# Altium footprint library AD5162BRMZ100.PcbLib: 3 footprints
Each footprint in its own frame and in the unit in brackets; x right, y up, seen from the top. Pads: shape width x height; smd on the part's side, far side on the other; paste and mask are expansions set on the pad; w line width, h text height; cw(c..) or ccw(c..) is an arc to the next point about the centre after c.
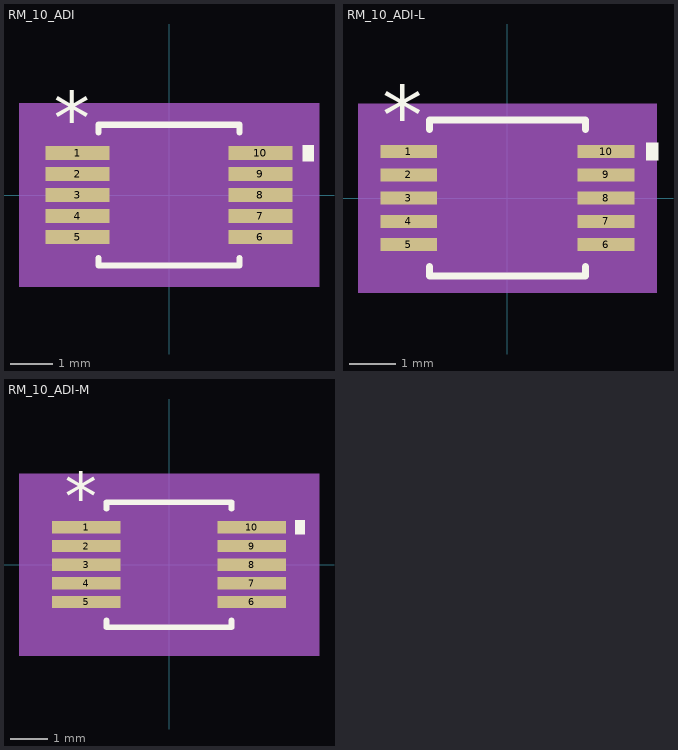
[diagram p0: the footprints below, top view; thin cyan lines are the x and y axes]

## RM_10_ADI [mil]
pads (10):
  rect 60x13 smd paste+0 mask+0: 1(-85.5,39.37) 2(-85.5,19.68) 3(-85.5,0) 4(-85.5,-19.68) 5(-85.5,-39.37) 6(85.5,-39.37) 7(85.5,-19.68) 8(85.5,0) 9(85.5,19.68) 10(85.5,39.37)
Top Overlay:
  region: 125.5,46.87 135.5,46.87 135.5,31.87 125.5,31.87
  lines w6: -66,-58.97 -66,-66 66,-66 66,-58.97 ; -66,58.97 -66,66 66,66 66,58.97
  text "*" at -108,47.37 h50
Mechanical 5:
  region: 140.5,-86 -140.5,-86 -140.5,86 140.5,86
Mechanical 13:
  lines w0: -12,61 ccw(c0,61) 12,61
  lines w1: -101.5,-45.87 -101.5,-32.87 -61,-32.87 -61,-45.87 -101.5,-45.87 ; -101.5,-26.18 -101.5,-13.19 -61,-13.19 -61,-26.18 -101.5,-26.18 ; -101.5,-6.5 -101.5,6.5 -61,6.5 -61,-6.5 -101.5,-6.5 ; -101.5,13.19 -101.5,26.18 -61,26.18 -61,13.19 -101.5,13.19 ; -101.5,32.87 -101.5,45.87 -61,45.87 -61,32.87 -101.5,32.87 ; -61,-61 61,-61 61,61 -61,61 -61,-61 ; 61,-45.87 61,-32.87 101.5,-32.87 101.5,-45.87 61,-45.87 ; 61,-26.18 61,-13.19 101.5,-13.19 101.5,-26.18 61,-26.18 ; 61,-6.5 61,6.5 101.5,6.5 101.5,-6.5 61,-6.5 ; 61,13.19 61,26.18 101.5,26.18 101.5,13.19 61,13.19 ; 61,32.87 61,45.87 101.5,45.87 101.5,32.87 61,32.87
  text "*" at -58.5,8 h50
Mechanical 15:
  region: -71,-55.87 -125.5,-55.87 -125.5,55.87 -71,55.87 -71,71 71,71 71,55.87 125.5,55.87 125.5,-55.87 71,-55.87 71,-71 -71,-71
  lines w6: -125.5,-55.87 -125.5,55.87 -71,55.87 -71,71 71,71 71,55.87 125.5,55.87 125.5,-55.87 71,-55.87 71,-71 -71,-71 -71,-55.87 -125.5,-55.87
3D body "RM_10_ADI.step": height 43.11, standoff 0, extent -101.5,-60.98 101.5,60.98

## RM_10_ADI-L [mil]
pads (10):
  rect 48x11 smd paste+0 mask+0: 1(-83.5,39.37) 2(-83.5,19.68) 3(-83.5,0) 4(-83.5,-19.68) 5(-83.5,-39.37) 6(83.5,-39.37) 7(83.5,-19.68) 8(83.5,0) 9(83.5,19.68) 10(83.5,39.37)
Top Overlay:
  region: 117.5,46.87 127.5,46.87 127.5,31.87 117.5,31.87
  lines w6: -66,-57.97 -66,-66 66,-66 66,-57.97 ; -66,57.97 -66,66 66,66 66,57.97
  text "*" at -106,45.37 h50
Mechanical 5:
  region: 126.5,-80 -126.5,-80 -126.5,80 126.5,80
Mechanical 13:
  lines w0: -12,61 ccw(c0,61) 12,61
  lines w1: -101.5,-45.87 -101.5,-32.87 -61,-32.87 -61,-45.87 -101.5,-45.87 ; -101.5,-26.18 -101.5,-13.19 -61,-13.19 -61,-26.18 -101.5,-26.18 ; -101.5,-6.5 -101.5,6.5 -61,6.5 -61,-6.5 -101.5,-6.5 ; -101.5,13.19 -101.5,26.18 -61,26.18 -61,13.19 -101.5,13.19 ; -101.5,32.87 -101.5,45.87 -61,45.87 -61,32.87 -101.5,32.87 ; -61,-61 61,-61 61,61 -61,61 -61,-61 ; 61,-45.87 61,-32.87 101.5,-32.87 101.5,-45.87 61,-45.87 ; 61,-26.18 61,-13.19 101.5,-13.19 101.5,-26.18 61,-26.18 ; 61,-6.5 61,6.5 101.5,6.5 101.5,-6.5 61,-6.5 ; 61,13.19 61,26.18 101.5,26.18 101.5,13.19 61,13.19 ; 61,32.87 61,45.87 101.5,45.87 101.5,32.87 61,32.87
  text "*" at -58.5,8 h50
Mechanical 15:
  region: -65,-48.87 -111.5,-48.87 -111.5,48.87 -65,48.87 -65,65 65,65 65,48.87 111.5,48.87 111.5,-48.87 65,-48.87 65,-65 -65,-65
  lines w6: -111.5,-48.87 -111.5,48.87 -65,48.87 -65,65 65,65 65,48.87 111.5,48.87 111.5,-48.87 65,-48.87 65,-65 -65,-65 -65,-48.87 -111.5,-48.87
3D body "RM_10_ADI.step": height 43.11, standoff 0, extent -101.5,-60.98 101.5,60.98

## RM_10_ADI-M [mil]
pads (10):
  rect 72x13 smd paste+0 mask+0: 1(-87.5,39.37) 2(-87.5,19.68) 3(-87.5,0) 4(-87.5,-19.68) 5(-87.5,-39.37) 6(87.5,-39.37) 7(87.5,-19.68) 8(87.5,0) 9(87.5,19.68) 10(87.5,39.37)
Top Overlay:
  region: 133.5,46.87 143.5,46.87 143.5,31.87 133.5,31.87
  lines w6: -66,-58.97 -66,-66 66,-66 66,-58.97 ; -66,58.97 -66,66 66,66 66,58.97
  text "*" at -110,47.37 h50
Mechanical 5:
  region: 158.5,-96 -158.5,-96 -158.5,96 158.5,96
Mechanical 13:
  lines w0: -12,61 ccw(c0,61) 12,61
  lines w1: -101.5,-45.87 -101.5,-32.87 -61,-32.87 -61,-45.87 -101.5,-45.87 ; -101.5,-26.18 -101.5,-13.19 -61,-13.19 -61,-26.18 -101.5,-26.18 ; -101.5,-6.5 -101.5,6.5 -61,6.5 -61,-6.5 -101.5,-6.5 ; -101.5,13.19 -101.5,26.18 -61,26.18 -61,13.19 -101.5,13.19 ; -101.5,32.87 -101.5,45.87 -61,45.87 -61,32.87 -101.5,32.87 ; -61,-61 61,-61 61,61 -61,61 -61,-61 ; 61,-45.87 61,-32.87 101.5,-32.87 101.5,-45.87 61,-45.87 ; 61,-26.18 61,-13.19 101.5,-13.19 101.5,-26.18 61,-26.18 ; 61,-6.5 61,6.5 101.5,6.5 101.5,-6.5 61,-6.5 ; 61,13.19 61,26.18 101.5,26.18 101.5,13.19 61,13.19 ; 61,32.87 61,45.87 101.5,45.87 101.5,32.87 61,32.87
  text "*" at -58.5,8 h50
Mechanical 15:
  region: -81,-65.87 -143.5,-65.87 -143.5,65.87 -81,65.87 -81,81 81,81 81,65.87 143.5,65.87 143.5,-65.87 81,-65.87 81,-81 -81,-81
  lines w6: -143.5,-65.87 -143.5,65.87 -81,65.87 -81,81 81,81 81,65.87 143.5,65.87 143.5,-65.87 81,-65.87 81,-81 -81,-81 -81,-65.87 -143.5,-65.87
3D body "RM_10_ADI.step": height 43.11, standoff 0, extent -101.5,-60.98 101.5,60.98